# EAGLE library part SSW-133-02-S-T (library con-samtec)
THROUGH-HOLE .025" SQ POST SOCKET Source: Samtec SSW.pdf
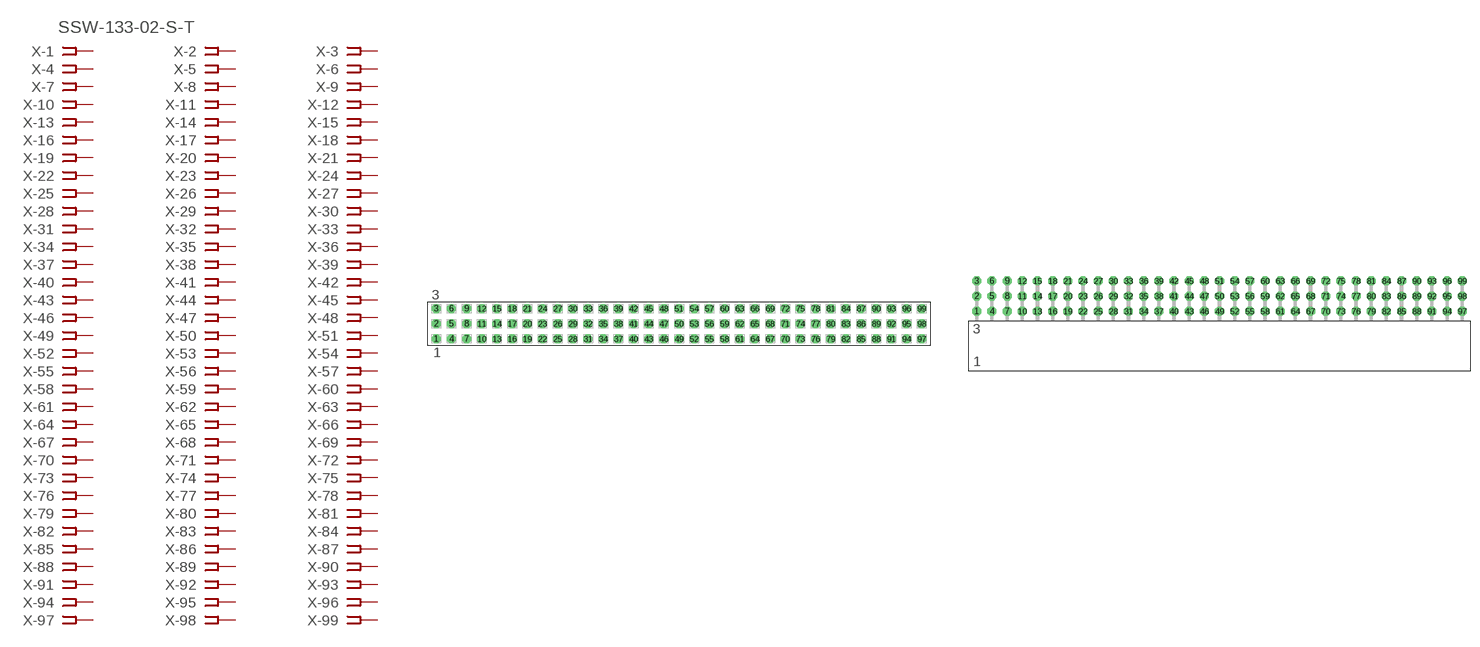
[diagram p23: symbol with the pads of SSW-133-02-S-T; footprints SSW-133-02-S-T, SSW-133-02-S-T-RA]

Designator prefix X; gates -1=FPINV -2=FPIN -3=FPIN -4=FPIN -5=FPIN -6=FPIN -7=FPIN -8=FPIN -9=FPIN -10=FPIN -11=FPIN -12=FPIN -13=FPIN -14=FPIN -15=FPIN -16=FPIN -17=FPIN -18=FPIN -19=FPIN -20=FPIN -21=FPIN -22=FPIN -23=FPIN -24=FPIN -25=FPIN -26=FPIN -27=FPIN -28=FPIN -29=FPIN -30=FPIN -31=FPIN -32=FPIN -33=FPIN -34=FPIN -35=FPIN -36=FPIN -37=FPIN -38=FPIN -39=FPIN -40=FPIN -41=FPIN -42=FPIN -43=FPIN -44=FPIN -45=FPIN -46=FPIN -47=FPIN -48=FPIN -49=FPIN -50=FPIN -51=FPIN -52=FPIN -53=FPIN -54=FPIN -55=FPIN -56=FPIN -57=FPIN -58=FPIN -59=FPIN -60=FPIN -61=FPIN -62=FPIN -63=FPIN -64=FPIN -65=FPIN -66=FPIN -67=FPIN -68=FPIN -69=FPIN -70=FPIN -71=FPIN -72=FPIN -73=FPIN -74=FPIN -75=FPIN -76=FPIN -77=FPIN -78=FPIN -79=FPIN -80=FPIN -81=FPIN -82=FPIN -83=FPIN -84=FPIN -85=FPIN -86=FPIN -87=FPIN -88=FPIN -89=FPIN -90=FPIN -91=FPIN -92=FPIN -93=FPIN -94=FPIN -95=FPIN -96=FPIN -97=FPIN -98=FPIN -99=FPIN

## SSW-133-02-S-T (OC_FARNELL: unknown; OC_NEWARK: unknown)  [SSW-133-02-S-T]
1  -1:1  pas
2  -2:1  pas
3  -3:1  pas
4  -4:1  pas
5  -5:1  pas
6  -6:1  pas
7  -7:1  pas
8  -8:1  pas
9  -9:1  pas
10  -10:1  pas
11  -11:1  pas
12  -12:1  pas
13  -13:1  pas
14  -14:1  pas
15  -15:1  pas
16  -16:1  pas
17  -17:1  pas
18  -18:1  pas
19  -19:1  pas
20  -20:1  pas
21  -21:1  pas
22  -22:1  pas
23  -23:1  pas
24  -24:1  pas
25  -25:1  pas
26  -26:1  pas
27  -27:1  pas
28  -28:1  pas
29  -29:1  pas
30  -30:1  pas
31  -31:1  pas
32  -32:1  pas
33  -33:1  pas
34  -34:1  pas
35  -35:1  pas
36  -36:1  pas
37  -37:1  pas
38  -38:1  pas
39  -39:1  pas
40  -40:1  pas
41  -41:1  pas
42  -42:1  pas
43  -43:1  pas
44  -44:1  pas
45  -45:1  pas
46  -46:1  pas
47  -47:1  pas
48  -48:1  pas
49  -49:1  pas
50  -50:1  pas
51  -51:1  pas
52  -52:1  pas
53  -53:1  pas
54  -54:1  pas
55  -55:1  pas
56  -56:1  pas
57  -57:1  pas
58  -58:1  pas
59  -59:1  pas
60  -60:1  pas
61  -61:1  pas
62  -62:1  pas
63  -63:1  pas
64  -64:1  pas
65  -65:1  pas
66  -66:1  pas
67  -67:1  pas
68  -68:1  pas
69  -69:1  pas
70  -70:1  pas
71  -71:1  pas
72  -72:1  pas
73  -73:1  pas
74  -74:1  pas
75  -75:1  pas
76  -76:1  pas
77  -77:1  pas
78  -78:1  pas
79  -79:1  pas
80  -80:1  pas
81  -81:1  pas
82  -82:1  pas
83  -83:1  pas
84  -84:1  pas
85  -85:1  pas
86  -86:1  pas
87  -87:1  pas
88  -88:1  pas
89  -89:1  pas
90  -90:1  pas
91  -91:1  pas
92  -92:1  pas
93  -93:1  pas
94  -94:1  pas
95  -95:1  pas
96  -96:1  pas
97  -97:1  pas
98  -98:1  pas
99  -99:1  pas

## SSW-133-02-S-TRA (MPN: SSW-133-02-S-T-RA; OC_FARNELL: unknown; OC_NEWARK: 83P0555)  [SSW-133-02-S-T-RA]
Pads as for SSW-133-02-S-T

## Footprint SSW-133-02-S-T (pad centres in mm)
THROUGH-HOLE .025" SQ POST SOCKET Source: Samtec SSW.pdf
drill 1 pad 1.5 octagon: 1 -40.64,-2.54; 2 -40.64,0; 3 -40.64,2.54; 4 -38.1,-2.54; 5 -38.1,0; 6 -38.1,2.54; 7 -35.56,-2.54; 8 -35.56,0; 9 -35.56,2.54; 10 -33.02,-2.54; 11 -33.02,0; 12 -33.02,2.54; 13 -30.48,-2.54; 14 -30.48,0; 15 -30.48,2.54; 16 -27.94,-2.54; 17 -27.94,0; 18 -27.94,2.54; 19 -25.4,-2.54; 20 -25.4,0; 21 -25.4,2.54; 22 -22.86,-2.54; 23 -22.86,0; 24 -22.86,2.54; 25 -20.32,-2.54; 26 -20.32,0; 27 -20.32,2.54; 28 -17.78,-2.54; 29 -17.78,0; 30 -17.78,2.54; 31 -15.24,-2.54; 32 -15.24,0; 33 -15.24,2.54; 34 -12.7,-2.54; 35 -12.7,0; 36 -12.7,2.54; 37 -10.16,-2.54; 38 -10.16,0; 39 -10.16,2.54; 40 -7.62,-2.54; 41 -7.62,0; 42 -7.62,2.54; 43 -5.08,-2.54; 44 -5.08,0; 45 -5.08,2.54; 46 -2.54,-2.54; 47 -2.54,0; 48 -2.54,2.54; 49 0,-2.54; 50 0,0; 51 0,2.54; 52 2.54,-2.54; 53 2.54,0; 54 2.54,2.54; 55 5.08,-2.54; 56 5.08,0; 57 5.08,2.54; 58 7.62,-2.54; 59 7.62,0; 60 7.62,2.54; 61 10.16,-2.54; 62 10.16,0; 63 10.16,2.54; 64 12.7,-2.54; 65 12.7,0; 66 12.7,2.54; 67 15.24,-2.54; 68 15.24,0; 69 15.24,2.54; 70 17.78,-2.54; 71 17.78,0; 72 17.78,2.54; 73 20.32,-2.54; 74 20.32,0; 75 20.32,2.54; 76 22.86,-2.54; 77 22.86,0; 78 22.86,2.54; 79 25.4,-2.54; 80 25.4,0; 81 25.4,2.54; 82 27.94,-2.54; 83 27.94,0; 84 27.94,2.54; 85 30.48,-2.54; 86 30.48,0; 87 30.48,2.54; 88 33.02,-2.54; 89 33.02,0; 90 33.02,2.54; 91 35.56,-2.54; 92 35.56,0; 93 35.56,2.54; 94 38.1,-2.54; 95 38.1,0; 96 38.1,2.54; 97 40.64,-2.54; 98 40.64,0; 99 40.64,2.54

## Footprint SSW-133-02-S-T-RA (pad centres in mm)
THROUGH-HOLE .025" SQ POST SOCKET Source: Samtec SSW.pdf
drill 1 pad 1.5 octagon: 1 -40.64,1.524; 2 -40.64,4.064; 3 -40.64,6.604; 4 -38.1,1.524; 5 -38.1,4.064; 6 -38.1,6.604; 7 -35.56,1.524; 8 -35.56,4.064; 9 -35.56,6.604; 10 -33.02,1.524; 11 -33.02,4.064; 12 -33.02,6.604; 13 -30.48,1.524; 14 -30.48,4.064; 15 -30.48,6.604; 16 -27.94,1.524; 17 -27.94,4.064; 18 -27.94,6.604; 19 -25.4,1.524; 20 -25.4,4.064; 21 -25.4,6.604; 22 -22.86,1.524; 23 -22.86,4.064; 24 -22.86,6.604; 25 -20.32,1.524; 26 -20.32,4.064; 27 -20.32,6.604; 28 -17.78,1.524; 29 -17.78,4.064; 30 -17.78,6.604; 31 -15.24,1.524; 32 -15.24,4.064; 33 -15.24,6.604; 34 -12.7,1.524; 35 -12.7,4.064; 36 -12.7,6.604; 37 -10.16,1.524; 38 -10.16,4.064; 39 -10.16,6.604; 40 -7.62,1.524; 41 -7.62,4.064; 42 -7.62,6.604; 43 -5.08,1.524; 44 -5.08,4.064; 45 -5.08,6.604; 46 -2.54,1.524; 47 -2.54,4.064; 48 -2.54,6.604; 49 0,1.524; 50 0,4.064; 51 0,6.604; 52 2.54,1.524; 53 2.54,4.064; 54 2.54,6.604; 55 5.08,1.524; 56 5.08,4.064; 57 5.08,6.604; 58 7.62,1.524; 59 7.62,4.064; 60 7.62,6.604; 61 10.16,1.524; 62 10.16,4.064; 63 10.16,6.604; 64 12.7,1.524; 65 12.7,4.064; 66 12.7,6.604; 67 15.24,1.524; 68 15.24,4.064; 69 15.24,6.604; 70 17.78,1.524; 71 17.78,4.064; 72 17.78,6.604; 73 20.32,1.524; 74 20.32,4.064; 75 20.32,6.604; 76 22.86,1.524; 77 22.86,4.064; 78 22.86,6.604; 79 25.4,1.524; 80 25.4,4.064; 81 25.4,6.604; 82 27.94,1.524; 83 27.94,4.064; 84 27.94,6.604; 85 30.48,1.524; 86 30.48,4.064; 87 30.48,6.604; 88 33.02,1.524; 89 33.02,4.064; 90 33.02,6.604; 91 35.56,1.524; 92 35.56,4.064; 93 35.56,6.604; 94 38.1,1.524; 95 38.1,4.064; 96 38.1,6.604; 97 40.64,1.524; 98 40.64,4.064; 99 40.64,6.604